# Altium integrated library tr-804-DECT_2023-07.IntLib: 54 symbols
Pins are listed as number, name and electrical type; pins without a type are passive.

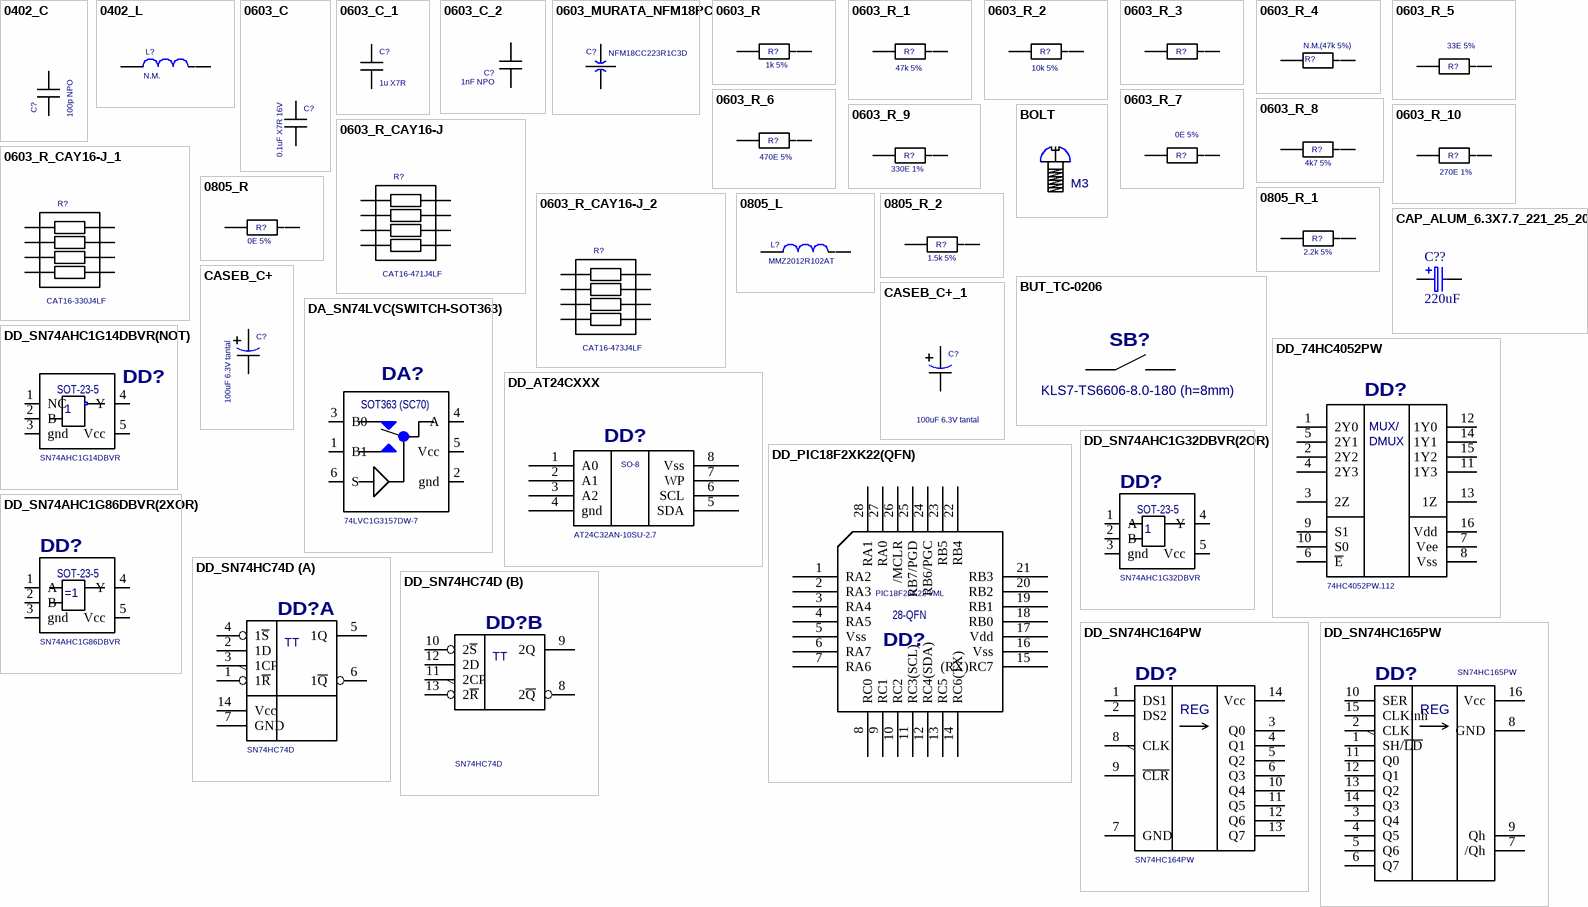
[diagram p0: symbols 0402_C to DD_SN74HC165PW]

## 0402_C
designator C?  value 100p NPO  (hidden comment: 0402_C)
{Description}; SwapEquivalence: {SwapEquivalence}
footprint 0402
pins: 1, 2

## 0402_L
designator L?  value N.M.  (hidden comment: 0402_L)
не закупать и не монтировать; SwapEquivalence: {SwapEquivalence}
footprint 0402
pins: 1, 2

## 0603_C
designator C?  value 0.1uF X7R 16V  (hidden comment: 0603_C)
{Description}; SwapEquivalence: {SwapEquivalence}
footprint 0603
pins: 1, 2

## 0603_C_1
designator C?, comment value 1u X7R  (hidden comment: 0603_C)
{Description}; SwapEquivalence: {SwapEquivalence}
footprint 0603
pins: 1, 2

## 0603_C_2
designator C?, comment value 1nF NPO  (hidden comment: 0603_C)
{Description}; SwapEquivalence: {SwapEquivalence}
footprint 0603
pins: 1, 2

## 0603_MURATA_NFM18PC
designator C?  value NFM18CC223R1C3D  (hidden comment: 0603_MURATA_NFM18PC)
{Description}; SwapEquivalence: {SwapEquivalence}
footprint 0603_MURATA_NFM18PC
pins: 1, 2, 3, 4

## 0603_R
designator R?  value 1k 5%  (hidden comment: 0603_R)
{Description}; SwapEquivalence: {SwapEquivalence}
footprint 0603
pins: 1, 2

## 0603_R_1
designator R?, comment value 47k 5%  (hidden comment: 0603_R)
{Description}; SwapEquivalence: {SwapEquivalence}
footprint 0603
pins: 1, 2

## 0603_R_2
designator R?, comment value 10k 5%  (hidden comment: 0603_R)
{Description}; SwapEquivalence: {SwapEquivalence}
footprint 0603
pins: 1, 2

## 0603_R_3
designator R?, comment 0603_R  (value not drawn)
не закупать и не монтировать; Value: N.M.(10k 5%); SwapEquivalence: {SwapEquivalence}
footprint 0603
pins: 1, 2

## 0603_R_4
designator R?, comment value N.M.(47k 5%)  (hidden comment: 0603_R)
не закупать и не монтировать; SwapEquivalence: {SwapEquivalence}
footprint 0603
pins: 1, 2

## 0603_R_5
designator R?, comment value 33E 5%  (hidden comment: 0603_R)
{Description}; SwapEquivalence: {SwapEquivalence}
footprint 0603
pins: 1, 2

## 0603_R_6
designator R?, comment value 470E 5%  (hidden comment: 0603_R)
{Description}; SwapEquivalence: {SwapEquivalence}
footprint 0603
pins: 1, 2

## 0603_R_7
designator R?, comment value 0E 5%  (hidden comment: 0603_R)
{Description}; SwapEquivalence: {SwapEquivalence}
footprint 0603
pins: 1, 2

## 0603_R_8
designator R?, comment value 4k7 5%  (hidden comment: 0603_R)
{Description}; SwapEquivalence: {SwapEquivalence}
footprint 0603
pins: 1, 2

## 0603_R_9
designator R?, comment value 330E 1%  (hidden comment: 0603_R)
{Description}; SwapEquivalence: {SwapEquivalence}
footprint 0603
pins: 1, 2

## 0603_R_10
designator R?, comment value 270E 1%  (hidden comment: 0603_R)
{Description}; SwapEquivalence: {SwapEquivalence}
footprint 0603
pins: 1, 2

## 0603_R_CAY16-J
designator R?  value CAT16-471J4LF  (hidden comment: 0603_R_CAY16-J)
{Description}; SwapEquivalence: {SwapEquivalence}
footprint CAY16-J4
pins: 1, 2, 3, 4, 5, 6, 7, 8

## 0603_R_CAY16-J_1
designator R?, comment value CAT16-330J4LF  (hidden comment: 0603_R_CAY16-J)
{Description}; SwapEquivalence: {SwapEquivalence}
footprint CAY16-J4
pins: 1, 2, 3, 4, 5, 6, 7, 8

## 0603_R_CAY16-J_2
designator R?, comment value CAT16-473J4LF  (hidden comment: 0603_R_CAY16-J)
{Description}; SwapEquivalence: {SwapEquivalence}
footprint CAY16-J4
pins: 1, 2, 3, 4, 5, 6, 7, 8

## 0805_L
designator L?  value MMZ2012R102AT  (hidden comment: 0805_L)
{Description}; SwapEquivalence: {SwapEquivalence}
footprint 0805
pins: 1, 2

## 0805_R
designator R?  value 0E 5%  (hidden comment: 0805_R)
{Description}; SwapEquivalence: {SwapEquivalence}
footprint 0805
pins: 1, 2

## 0805_R_1
designator R?, comment value 2.2k 5%  (hidden comment: 0805_R)
{Description}; SwapEquivalence: {SwapEquivalence}
footprint 0805
pins: 1, 2

## 0805_R_2
designator R?, comment value 1.5k 5%  (hidden comment: 0805_R)
{Description}; SwapEquivalence: {SwapEquivalence}
footprint 0805
pins: 1, 2

## BOLT
designator M?  value M3  (hidden comment: BOLT)
{Description}; SwapEquivalence: {SwapEquivalence}
footprint M32
pins: 1

## BUT_TC-0206
designator SB?  value KLS7-TS6606-8.0-180 (h=8mm)  (hidden comment: BUT_TC-0206)
{Description}; SwapEquivalence: кнопка тактовая угловая (h=8mm)
footprint BUTTON_TC-0206
pins: 1, 2, 3 hidden, 4 hidden

## CAP_ALUM_6.3X7.7_221_25_20
designator C??, comment value 220uF  (hidden comment: CAPACITOR_POL)
Aluminum Electrolytic Capasitor SMD Size 6,3x7,7; Part Number: CAP_ALUM_6.3X7.7_221_25_20; Manufacturer: Panasonic; Manufacturer Part Number: EEEFTE221XAP; Voltage: 25V; Tolerance: 20%; Replace: CDS025M221E7DPKKKV00R; Part Type: ALUMINUM; Size: 6,3x7,7
footprint CAP_Radial_6.3x7.7_SMD
pins: 1 P, 2 N

## CASEB_C+
designator C?  value 100uF 6.3V tantal  (hidden comment: CASEB_C+)
не закупать и не монтировать; SwapEquivalence: {SwapEquivalence}
footprint CASE_B
pins: 1, 2

## CASEB_C+_1
designator C?, comment value 100uF 6.3V tantal  (hidden comment: CASEB_C+)
{Description}; SwapEquivalence: {SwapEquivalence}
footprint CASE_B
pins: 1, 2

## DA_SN74LVC(SWITCH-SOT363)
designator DA?  value 74LVC1G3157DW-7  (hidden comment: DA_SN74LVC(SWITCH-SOT363))
{Description}; SwapEquivalence: TS5A3159DCKR, SN74LVC1G3157DCKR(TI)
footprint SC70-6
pins: 1 B1, 2 gnd, 3 B0, 4 A, 5 Vcc, 6 S
text: SOT363 (SC70)

## DD_74HC4052PW
designator DD?  value 74HC4052PW.112  (hidden comment: DD_74HC4052PW)
{Description}; SwapEquivalence: {SwapEquivalence}
footprint TSSOP-16-0.65_PANTES
pins: 1 2Y0, 2 2Y2, 3 2Z, 4 2Y3, 5 2Y1, 6 ~{E}, 7 Vee, 8 Vss, 9 S1, 10 S0, 11 1Y3, 12 1Y0, 13 1Z, 14 1Y1, 15 1Y2, 16 Vdd
text: MUX/; DMUX

## DD_AT24CXXX
designator DD?  value AT24C32AN-10SU-2.7  (hidden comment: DD_AT24CXXX)
{Description}; SwapEquivalence: {SwapEquivalence}
footprint SO-8-1.27_PANTES
pins: 1 A0, 2 A1, 3 A2, 4 gnd, 5 SDA, 6 SCL, 7 WP, 8 Vss
text: SO-8

## DD_PIC18F2XK22(QFN)
designator DD?  value PIC18F26K22-I/ML  (hidden comment: DD_PIC18F2XK22(QFN))
{Description}; SwapEquivalence: PIC18LF26K22-I/ML
footprint QFN-28(6X6)
pins: 1 RA2, 2 RA3, 3 RA4, 4 RA5, 5 Vss, 6 RA7, 7 RA6, 8 RC0, 9 RC1, 10 RC2, 11 RC3(SCL), 12 RC4(SDA), 13 RC5, 14 RC6(TX), 15 (RX)RC7, 16 Vss, 17 Vdd, 18 RB0, 19 RB1, 20 RB2, 21 RB3, 22 RB4, 23 RB5, 24 RB6/PGC, 25 RB7/PGD, 26 /MCLR, 27 RA0, 28 RA1, 29 hidden
text: 28-QFN

## DD_SN74AHC1G14DBVR(NOT)
designator DD?  value SN74AHC1G14DBVR  (hidden comment: DD_SN74AHC1G14DBVR(NOT))
{Description}; SwapEquivalence: {SwapEquivalence}
footprint SOT-25
pins: 1 NC, 2 B, 3 gnd, 4 Y, 5 Vcc
text: SOT-23-5

## DD_SN74AHC1G32DBVR(2OR)
designator DD?  value SN74AHC1G32DBVR  (hidden comment: DD_SN74AHC1G32DBVR(2OR))
{Description}; SwapEquivalence: {SwapEquivalence}
footprint SOT-25
pins: 1 A, 2 B, 3 gnd, 4 Y, 5 Vcc
text: SOT-23-5

## DD_SN74AHC1G86DBVR(2XOR)
designator DD?  value SN74AHC1G86DBVR  (hidden comment: DD_SN74AHC1G86DBVR(2XOR))
{Description}; SwapEquivalence: {SwapEquivalence}
footprint SOT-25
pins: 1 A, 2 B, 3 gnd, 4 Y, 5 Vcc
text: SOT-23-5

## DD_SN74HC74D
designator DD?  value SN74HC74D  (hidden comment: DD_SN74HC74D)
{Description}; SwapEquivalence: {SwapEquivalence}
footprint SO-14-1.27
part A pins: 1 1~{R}, 2 1D, 3 1CP, 4 1~{S}, 5 1Q, 6 1~{Q}, 7 GND (power), 14 Vcc (power)
part B pins: 8 2~{Q}, 9 2Q, 10 2~{S}, 11 2CP, 12 2D, 13 2~{R}
part A text: TT
part B text: TT

## DD_SN74HC164PW
designator DD?  value SN74HC164PW  (hidden comment: DD_SN74HC164PW)
{Description}; SwapEquivalence: {SwapEquivalence}
footprint TSSOP-14-0.65_PANTES
pins: 1 DS1, 2 DS2, 3 Q0, 4 Q1, 5 Q2, 6 Q3, 7 GND, 8 CLK, 9 ~{CLR}, 10 Q4, 11 Q5, 12 Q6, 13 Q7, 14 Vcc
text: REG

## DD_SN74HC165PW
designator DD?  value SN74HC165PW  (hidden comment: DD_SN74HC165PW)
{Description}; SwapEquivalence: {SwapEquivalence}
footprint TSSOP-16-0.65_PANTES
pins: 1 SH/~{LD}, 2 CLK, 3 Q4, 4 Q5, 5 Q6, 6 Q7, 7 /Qh, 8 GND, 9 Qh, 10 SER, 11 Q0, 12 Q1, 13 Q2, 14 Q3, 15 CLKinh, 16 Vcc
text: REG

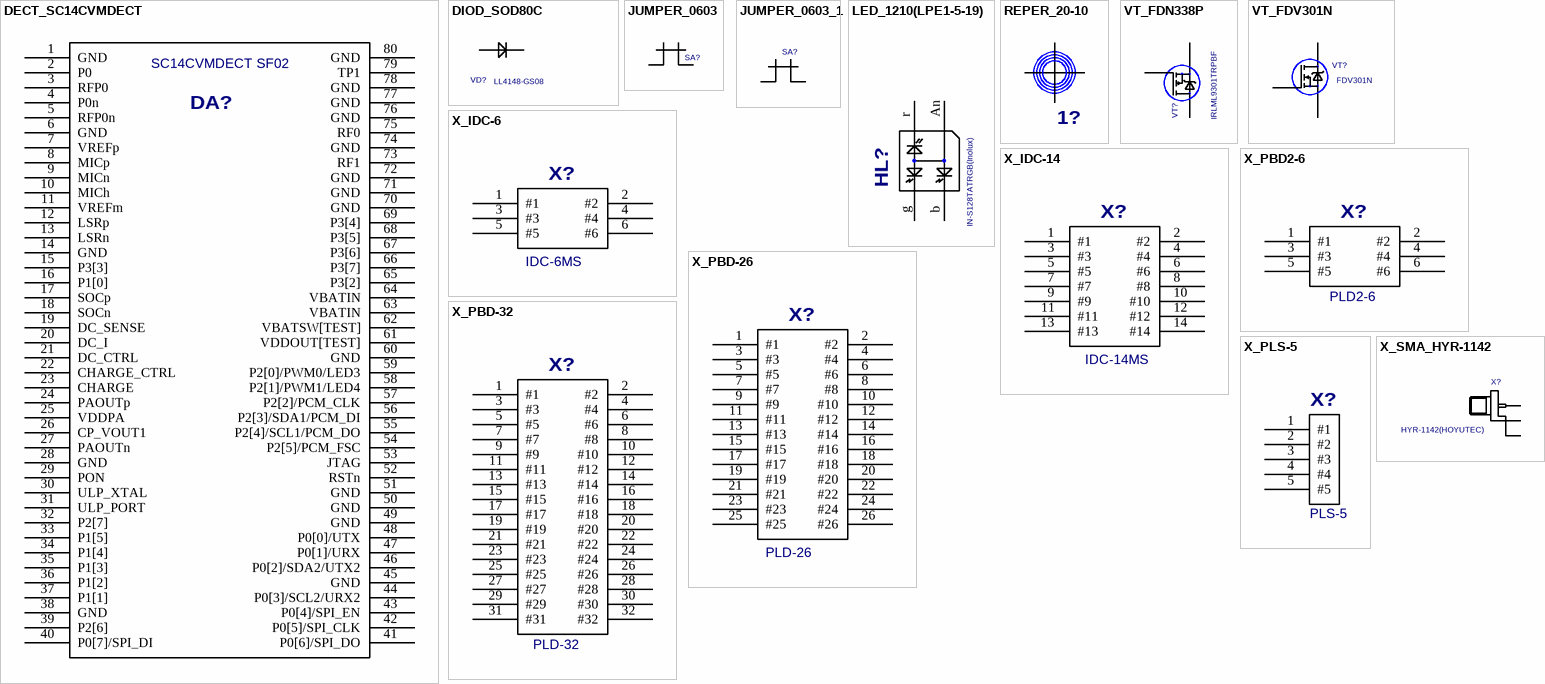
[diagram p1: symbols DECT_SC14CVMDECT to X_SMA_HYR-1142]

## DECT_SC14CVMDECT
designator DA?  value SC14CVMDECT SF02  (hidden comment: DECT_SC14CVMDECT)
уточнить перед заказом; SwapEquivalence: {SwapEquivalence}
footprint SC14CVMDECT(DECT)
pins: 1 GND, 2 P0, 3 RFP0, 4 P0n, 5 RFP0n, 6 GND, 7 VREFp, 8 MICp, 9 MICn, 10 MICh, 11 VREFm, 12 LSRp, 13 LSRn, 14 GND, 15 P3[3], 16 P1[0], 17 SOCp, 18 SOCn, 19 DC_SENSE, 20 DC_I, 21 DC_CTRL, 22 CHARGE_CTRL, 23 CHARGE, 24 PAOUTp, 25 VDDPA, 26 CP_VOUT1, 27 PAOUTn, 28 GND, 29 PON, 30 ULP_XTAL, 31 ULP_PORT, 32 P2[7], 33 P1[5], 34 P1[4], 35 P1[3], 36 P1[2], 37 P1[1], 38 GND, 39 P2[6], 40 P0[7]/SPI_DI, 41 P0[6]/SPI_DO, 42 P0[5]/SPI_CLK, 43 P0[4]/SPI_EN, 44 P0[3]/SCL2/URX2, 45 GND, 46 P0[2]/SDA2/UTX2, 47 P0[1]/URX, 48 P0[0]/UTX, 49 GND, 50 GND, 51 GND, 52 RSTn, 53 JTAG, 54 P2[5]/PCM_FSC, 55 P2[4]/SCL1/PCM_DO, 56 P2[3]/SDA1/PCM_DI, 57 P2[2]/PCM_CLK, 58 P2[1]/PWM1/LED4, 59 P2[0]/PWM0/LED3, 60 GND, 61 VDDOUT[TEST], 62 VBATSW[TEST], 63 VBATIN, 64 VBATIN, 65 P3[2], 66 P3[7], 67 P3[6], 68 P3[5], 69 P3[4], 70 GND, 71 GND, 72 GND, 73 RF1, 74 GND, 75 RF0, 76 GND, 77 GND, 78 GND, 79 TP1, 80 GND

## DIOD_SOD80C
designator VD?  value LL4148-GS08  (hidden comment: DIOD_SOD80C)
{Description}; SwapEquivalence: {SwapEquivalence}
footprint SOD80C
pins: A, K

## JUMPER_0603
designator SA?  (value not drawn)
{Description}; Value: enable; SwapEquivalence: {SwapEquivalence}
footprint JUMPER_0603
pins: 1 #1, 2 #2

## JUMPER_0603_1
designator SA?, comment JUMPER_0603  (value not drawn)
{Description}; Value: disable; SwapEquivalence: {SwapEquivalence}
footprint JUMPER_0603
pins: 1 #1, 2 #2

## LED_1210(LPE1-5-19)
designator HL?  value IN-S128TATRGB(Inolux)  (hidden comment: LED_1210(LPE1-5-19))
{Description}; SwapEquivalence: HSMF-C118 (Broadcom)
footprint 1210LED_LPE1-5-19
pins: An, b, g, r

## REPER_20-10
designator 1?  (value not drawn)
{Description}; SwapEquivalence: {SwapEquivalence}
footprint REP_1
pins: 1

## VT_FDN338P
designator VT?  value IRLML9301TRPBF  (hidden comment: VT_FDN338P)
{Description}; SwapEquivalence: {SwapEquivalence}
footprint SOT-23
pins: 1 G, 2 D, 3 S

## VT_FDV301N
designator VT?  value FDV301N  (hidden comment: VT_FDV301N)
{Description}; SwapEquivalence: {SwapEquivalence}
footprint SOT-23
pins: 1 G, 2 D, 3 S

## X_IDC-6
designator X?  value IDC-6MS  (hidden comment: X_IDC-6)
{Description}; SwapEquivalence: {SwapEquivalence}
footprint IDC-6
pins: 1 #1, 2 #2, 3 #3, 4 #4, 5 #5, 6 #6

## X_IDC-14
designator X?  value IDC-14MS  (hidden comment: X_IDC-14)
{Description}; SwapEquivalence: {SwapEquivalence}
footprint IDC-14
pins: 1 #1, 2 #2, 3 #3, 4 #4, 5 #5, 6 #6, 7 #7, 8 #8, 9 #9, 10 #10, 11 #11, 12 #12, 13 #13, 14 #14

## X_PBD2-6
designator X?  value PLD2-6  (hidden comment: X_PBD2-6)
{Description}; SwapEquivalence: {SwapEquivalence}
footprint PBD2-6
pins: 1 #1, 2 #2, 3 #3, 4 #4, 5 #5, 6 #6

## X_PBD-26
designator X?  value PLD-26  (hidden comment: X_PBD-26)
{Description}; SwapEquivalence: {SwapEquivalence}
footprint PBD-26
pins: 1 #1, 2 #2, 3 #3, 4 #4, 5 #5, 6 #6, 7 #7, 8 #8, 9 #9, 10 #10, 11 #11, 12 #12, 13 #13, 14 #14, 15 #15, 16 #16, 17 #17, 18 #18, 19 #19, 20 #20, 21 #21, 22 #22, 23 #23, 24 #24, 25 #25, 26 #26

## X_PBD-32
designator X?  value PLD-32  (hidden comment: X_PBD-32)
{Description}; SwapEquivalence: {SwapEquivalence}
footprint PBD-32
pins: 1 #1, 2 #2, 3 #3, 4 #4, 5 #5, 6 #6, 7 #7, 8 #8, 9 #9, 10 #10, 11 #11, 12 #12, 13 #13, 14 #14, 15 #15, 16 #16, 17 #17, 18 #18, 19 #19, 20 #20, 21 #21, 22 #22, 23 #23, 24 #24, 25 #25, 26 #26, 27 #27, 28 #28, 29 #29, 30 #30, 31 #31, 32 #32

## X_PLS-5
designator X?  value PLS-5  (hidden comment: X_PLS-5)
{Description}; SwapEquivalence: {SwapEquivalence}
footprint PLS-5
pins: 1 #1, 2 #2, 3 #3, 4 #4, 5 #5

## X_SMA_HYR-1142
designator X?  value HYR-1142(HOYUTEC)  (hidden comment: X_SMA_HYR-1142)
закупить но не монтировать; SwapEquivalence: {SwapEquivalence}
footprint SMA_HYR-1142
pins: 1, 2, 3